# Altium integrated library VH396-03S-010.IntLib: 1 symbol
Pins are listed as number, name and electrical type; pins without a type are passive.

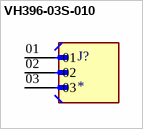
[diagram p0: symbol VH396-03S-010]

## VH396-03S-010
designator J?
VH396 - Valcon 3.96mm 5A Wire-to-Board Straight Locking Power Connector; MP: VH396-03S-010; Check_prices: https://www.snapeda.com/parts/VH396-03S-010/Valcon/view-part/?ref=eda; MF: Valcon; Price: None; Purchase-URL: https://pricing.snapeda.com/search/part/VH396-03S-010/?ref=eda; Availability: In Stock; Package: None; SnapEDA_Link: https://www.snapeda.com/parts/VH396-03S-010/Valcon/view-part/?ref=snap; Value: *
footprint VALCON_VH396-03S-010
pins: 01, 02, 03